# Altium schematic symbol library 8pin-molex-nanofit.SchLib: 1 symbol
Pins are listed as number, name and electrical type; pins without a type are passive.

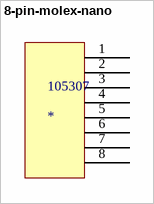
[diagram p0: symbol 8-pin-molex-nano]

## 8-pin-molex-nano
designator 105307
footprint Molex nano-fit 8pin (105307)
pins: 1, 2, 3, 4, 5, 6, 7, 8